# Altium footprint library speed_robot.PcbLib: 1 footprints
Each footprint in its own frame and in the unit in brackets; x right, y up, seen from the top. Pads: shape width x height; smd on the part's side, far side on the other; paste and mask are expansions set on the pad; w line width, h text height; cw(c..) or ccw(c..) is an arc to the next point about the centre after c.
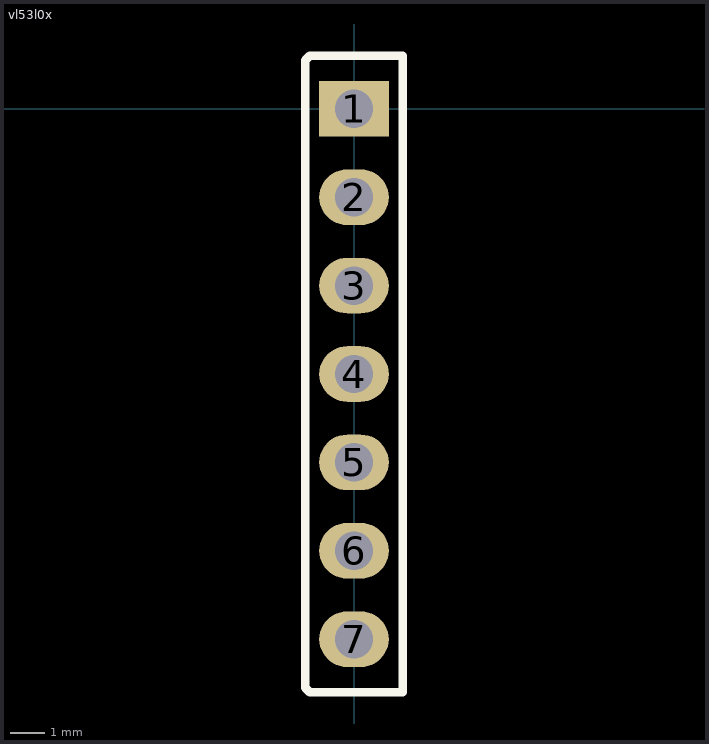
[diagram p0: the footprint, top view; thin cyan lines are the x and y axes]

## vl53l0x [mm]
pads (7):
  rect 2x1.6 hole 1.1: 1(0,0)
  oval 2x1.6 hole 1.1: 2(0,-2.54) 3(0,-5.08) 4(0,-7.62) 5(0,-10.16) 6(0,-12.7) 7(0,-15.24)
Top Overlay:
  lines w0.25: -1.397,-16.637 -1.397,1.397 -1.27,1.524 1.397,1.524 1.397,-16.764 -1.27,-16.764 -1.397,-16.637
3D body "User Library-zl262-7s_p2-54_l18-28_w2-54_h8-5.STEP": height 8.5, standoff -3, extent -1.27,-16.76 1.27,1.52
3D body "TOF.STEP": height 21.44, standoff 8.74, extent -7.965,-16.637 -5.751,1.143
3D body "DS1022-1x7RUF11.STEP": height 11.25, standoff 2.75, extent -8.435,-16.637 0.635,1.143